# EAGLE library part PIC24FJ64GA702-I_SO (library PIC24FJ64GA702-I_SO)
16-bit Microcontrollers - MCU 16-bit, 16 MIPS, 64KB Flash, 16KB RAM Source: Datasheet
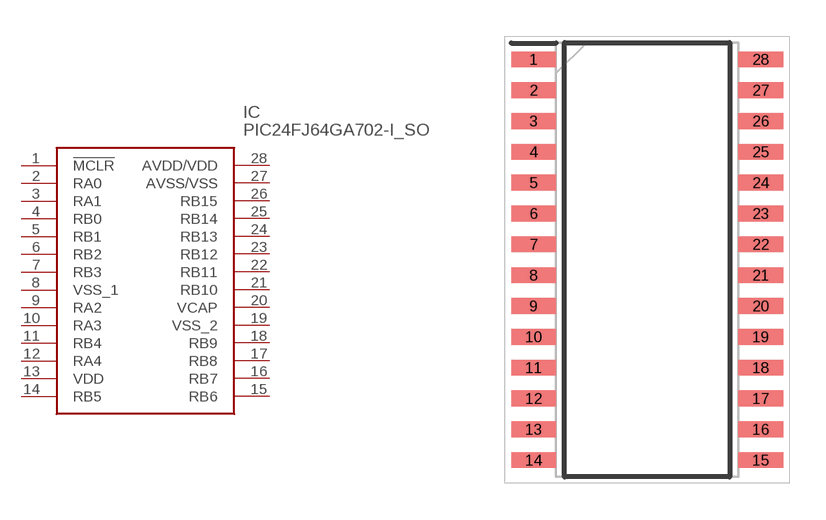
[diagram p0: symbol with the pads of SOIC127P1030X265-28N; footprint SOIC127P1030X265-28N]

Designator prefix IC

## PIC24FJ64GA702-I_SO (Description: 16-bit Microcontrollers - MCU 16-bit, 16 MIPS, 64KB Flash, 16KB RAM; Height: 2.65mm; Manufacturer_Name: Microchip; Manufacturer_Part_Number: PIC24FJ64GA702-I/SO; Mouser_Part_Number: 579-24FJ64GA702ISO; Mouser_Price-Stock: https://www.mouser.co.uk/ProductDetail/Microchip-Technology/PIC24FJ64GA702-I-SO?qs=tOTLKpwhCJcpK%252BsaonbYLQ%3D%3D)  [SOIC127P1030X265-28N]
1  !MCLR
2  RA0
3  RA1
4  RB0
5  RB1
6  RB2
7  RB3
8  VSS_1
9  RA2
10  RA3
11  RB4
12  RA4
13  VDD
14  RB5
15  RB6
16  RB7
17  RB8
18  RB9
19  VSS_2
20  VCAP
21  RB10
22  RB11
23  RB12
24  RB13
25  RB14
26  RB15
27  AVSS/VSS
28  AVDD/VDD

## Footprint SOIC127P1030X265-28N (pad centres in mm)
soic-28
smd 1.85 x 0.65: 1 -4.675,8.255; 2 -4.675,6.985; 3 -4.675,5.715; 4 -4.675,4.445; 5 -4.675,3.175; 6 -4.675,1.905; 7 -4.675,0.635; 8 -4.675,-0.635; 9 -4.675,-1.905; 10 -4.675,-3.175; 11 -4.675,-4.445; 12 -4.675,-5.715; 13 -4.675,-6.985; 14 -4.675,-8.255; 15 4.675,-8.255; 16 4.675,-6.985; 17 4.675,-5.715; 18 4.675,-4.445; 19 4.675,-3.175; 20 4.675,-1.905; 21 4.675,-0.635; 22 4.675,0.635; 23 4.675,1.905; 24 4.675,3.175; 25 4.675,4.445; 26 4.675,5.715; 27 4.675,6.985; 28 4.675,8.255